# Altium integrated library Renesas Logic.IntLib: 1013 symbols (part 27 of 27)
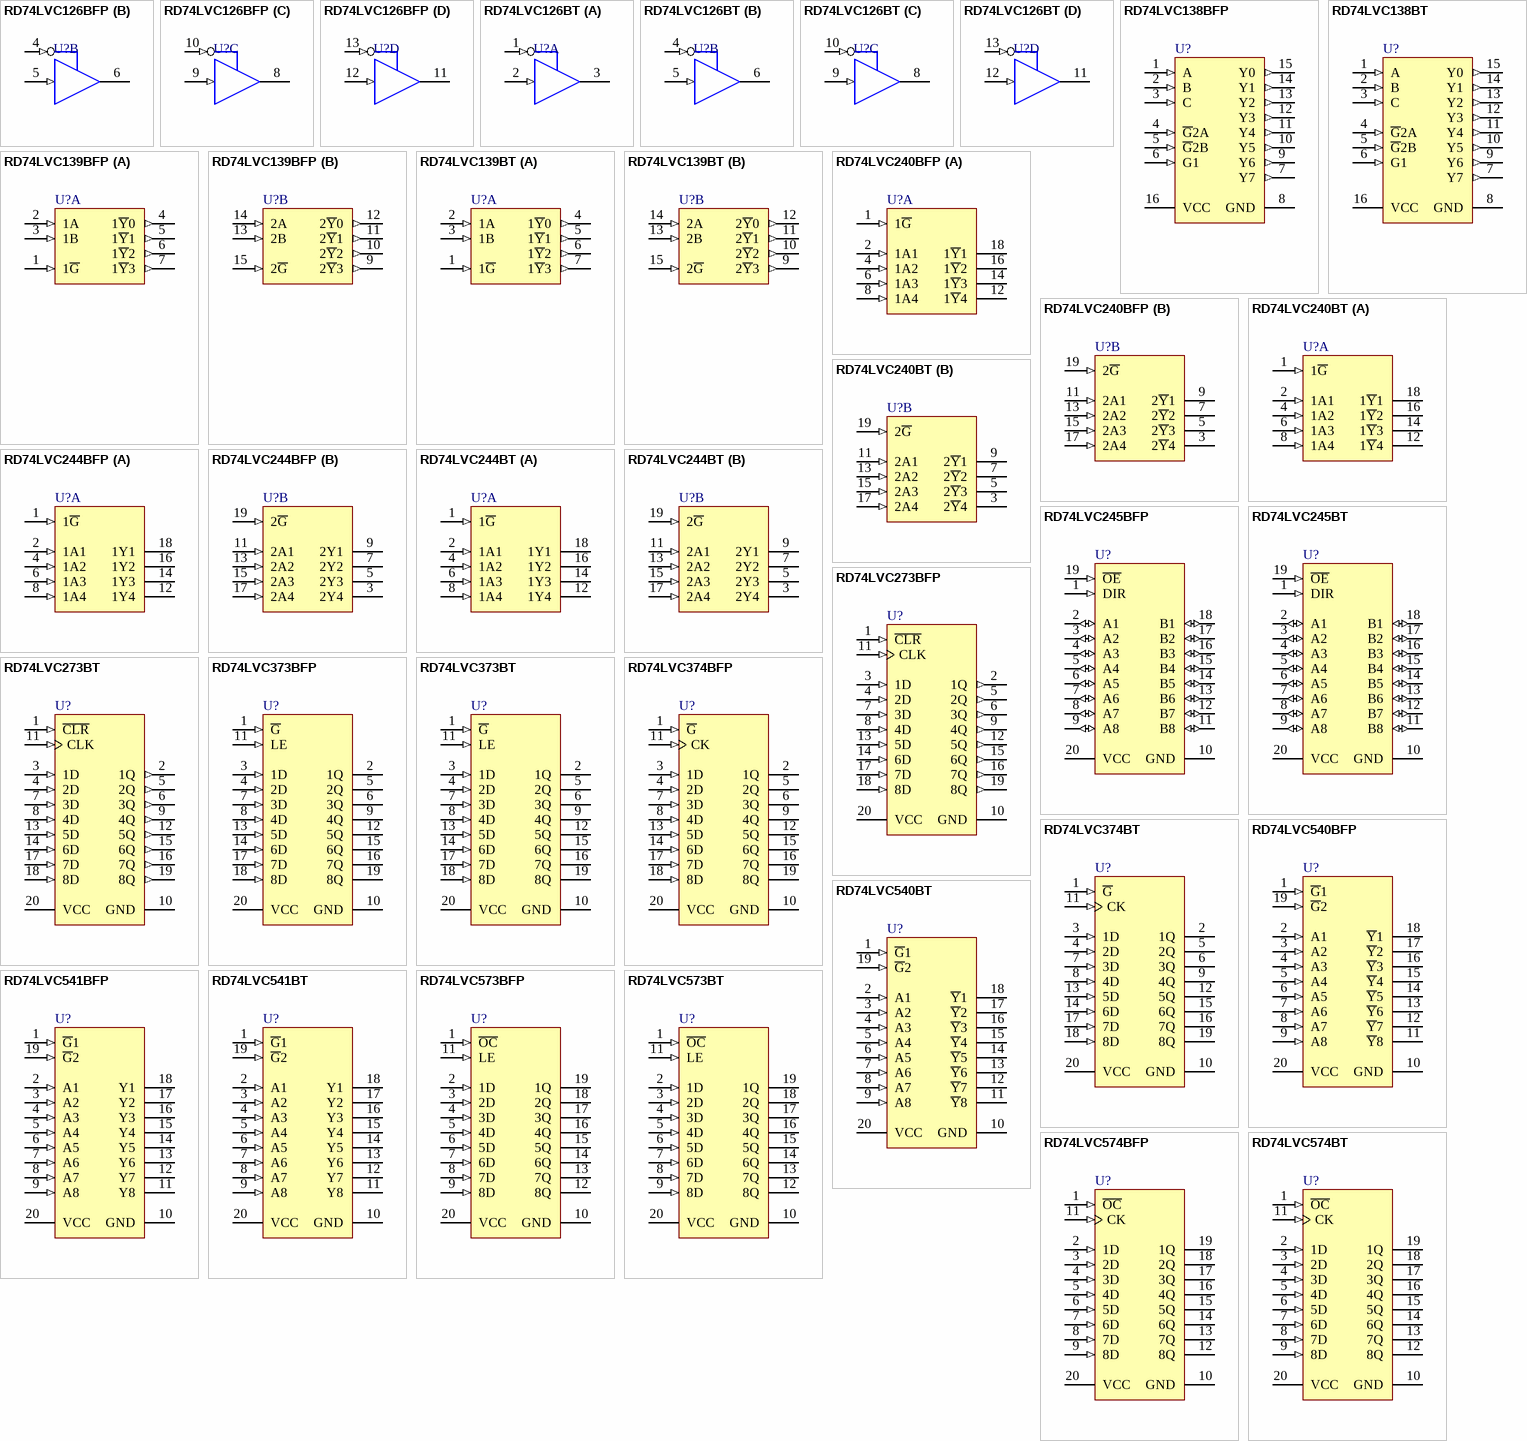
[diagram p79: symbols RD74LVC126BFP to RD74LVC574BT]

## RD74LVC244BFP
designator U?
Octal Buffers / Line Drivers with 3-State Outputs; Published: 10-Feb-2010; DatasheetVersion: Rev.2.00, Feb-2005; PackageVersion: Sep-2005; PackageReference: PRSP0020DD-B; Publisher: Altium Limited; PackageDescription: 20-Pin Plastic Small Outline Package, 12.6 x 5.5 x 1.8 mm Body, 1.27 mm Pitch; Code_JEITA: P-SOP20-5.5x12.6-1.27; ComponentLink1Description: Manufacturer Link; ComponentLink1URL: http://sg.renesas.com/fmwk.jsp?cnt=hd74lvc_root.jsp&fp=/products/standard_ic/general_purpose_logic/low_voltage_logic/hd74lvc/; ComponentLink2Description: Datasheet; ComponentLink2URL: http://documentation.renesas.com/eng/products/logic/rej03d0220_rd74lvc244b.pdf; ComponentLink3Description: Packaging Specification; ComponentLink3URL: http://sg.renesas.com/media/products/common_info/package/pdf/ic/code/prsp0020dd_b.pdf
footprint PRSP0020DD-B_N (SOP, 20-Leads, Body 12.6x5.3mm, Pitch 1.27mm, IPC Medium Density)
footprint PRSP0020DD-B_L (SOP, 20-Leads, Body 12.6x5.3mm, Pitch 1.27mm, IPC High Density)
footprint PRSP0020DD-B_M (SOP, 20-Leads, Body 12.6x5.3mm, Pitch 1.27mm, IPC Low Density)
pins on every part: 10 GND (power) hidden, 20 VCC (power) hidden
part A pins: 1 1~{G} (in), 2 1A1 (in), 4 1A2 (in), 6 1A3 (in), 8 1A4 (in), 12 1Y4 (hiz), 14 1Y3 (hiz), 16 1Y2 (hiz), 18 1Y1 (hiz)
part B pins: 3 2Y4 (hiz), 5 2Y3 (hiz), 7 2Y2 (hiz), 9 2Y1 (hiz), 11 2A1 (in), 13 2A2 (in), 15 2A3 (in), 17 2A4 (in), 19 2~{G} (in)

## RD74LVC244BT
designator U?
Octal Buffers / Line Drivers with 3-State Outputs; Published: 10-Feb-2010; DatasheetVersion: Rev.2.00, Feb-2005; PackageVersion: Sep-2005; PackageReference: PTSP0020JB-A; Publisher: Altium Limited; PackageDescription: 20-Pin Plastic Thin Small Outline Package, 6.5 x 4.4 mm Body, 0.65 mm Pitch; Code_JEITA: P-TSSOP20-4.4x6.5-0.65; ComponentLink1Description: Manufacturer Link; ComponentLink1URL: http://sg.renesas.com/fmwk.jsp?cnt=hd74lvc_root.jsp&fp=/products/standard_ic/general_purpose_logic/low_voltage_logic/hd74lvc/; ComponentLink2Description: Datasheet; ComponentLink2URL: http://documentation.renesas.com/eng/products/logic/rej03d0220_rd74lvc244b.pdf; ComponentLink3Description: Packaging Specification; ComponentLink3URL: http://sg.renesas.com/media/products/common_info/package/pdf/ic/code/ptsp0020jb_a.pdf
footprint PTSP0020JB-A_N (TSOP, 20-Leads, Body 6.5x4.4mm, Pitch 0.65mm, IPC Medium Density)
footprint PTSP0020JB-A_L (TSOP, 20-Leads, Body 6.5x4.4mm, Pitch 0.65mm, IPC High Density)
footprint PTSP0020JB-A_M (TSOP, 20-Leads, Body 6.5x4.4mm, Pitch 0.65mm, IPC Low Density)
pins on every part: 10 GND (power) hidden, 20 VCC (power) hidden
part A pins: 1 1~{G} (in), 2 1A1 (in), 4 1A2 (in), 6 1A3 (in), 8 1A4 (in), 12 1Y4 (hiz), 14 1Y3 (hiz), 16 1Y2 (hiz), 18 1Y1 (hiz)
part B pins: 3 2Y4 (hiz), 5 2Y3 (hiz), 7 2Y2 (hiz), 9 2Y1 (hiz), 11 2A1 (in), 13 2A2 (in), 15 2A3 (in), 17 2A4 (in), 19 2~{G} (in)

## RD74LVC245BFP
designator U?
Octal Bidirectional Transceivers with 3-State Outputs; Published: 10-Feb-2010; DatasheetVersion: Rev.1.00, Aug-2004; PackageVersion: Sep-2005; PackageReference: PRSP0020DD-B; Publisher: Altium Limited; PackageDescription: 20-Pin Plastic Small Outline Package, 12.6 x 5.5 x 1.8 mm Body, 1.27 mm Pitch; Code_JEITA: P-SOP20-5.5x12.6-1.27; ComponentLink1Description: Manufacturer Link; ComponentLink1URL: http://sg.renesas.com/fmwk.jsp?cnt=hd74lvc_root.jsp&fp=/products/standard_ic/general_purpose_logic/low_voltage_logic/hd74lvc/; ComponentLink2Description: Datasheet; ComponentLink2URL: http://documentation.renesas.com/eng/products/logic/rej03d0386_rd74lvc245b.pdf; ComponentLink3Description: Packaging Specification; ComponentLink3URL: http://sg.renesas.com/media/products/common_info/package/pdf/ic/code/prsp0020dd_b.pdf
footprint PRSP0020DD-B_N (SOP, 20-Leads, Body 12.6x5.3mm, Pitch 1.27mm, IPC Medium Density)
footprint PRSP0020DD-B_L (SOP, 20-Leads, Body 12.6x5.3mm, Pitch 1.27mm, IPC High Density)
footprint PRSP0020DD-B_M (SOP, 20-Leads, Body 12.6x5.3mm, Pitch 1.27mm, IPC Low Density)
pins: 1 DIR (in), 2 A1 (io), 3 A2 (io), 4 A3 (io), 5 A4 (io), 6 A5 (io), 7 A6 (io), 8 A7 (io), 9 A8 (io), 10 GND (power), 11 B8 (io), 12 B7 (io), 13 B6 (io), 14 B5 (io), 15 B4 (io), 16 B3 (io), 17 B2 (io), 18 B1 (io), 19 ~{OE} (in), 20 VCC (power)

## RD74LVC245BT
designator U?
Octal Bidirectional Transceivers with 3-State Outputs; Published: 10-Feb-2010; DatasheetVersion: Rev.1.00, Aug-2004; PackageVersion: Sep-2005; PackageReference: PTSP0020JB-A; Publisher: Altium Limited; PackageDescription: 20-Pin Plastic Thin Small Outline Package, 6.5 x 4.4 mm Body, 0.65 mm Pitch; Code_JEITA: P-TSSOP20-4.4x6.5-0.65; ComponentLink1Description: Manufacturer Link; ComponentLink1URL: http://sg.renesas.com/fmwk.jsp?cnt=hd74lvc_root.jsp&fp=/products/standard_ic/general_purpose_logic/low_voltage_logic/hd74lvc/; ComponentLink2Description: Datasheet; ComponentLink2URL: http://documentation.renesas.com/eng/products/logic/rej03d0386_rd74lvc245b.pdf; ComponentLink3Description: Packaging Specification; ComponentLink3URL: http://sg.renesas.com/media/products/common_info/package/pdf/ic/code/ptsp0020jb_a.pdf
footprint PTSP0020JB-A_N (TSOP, 20-Leads, Body 6.5x4.4mm, Pitch 0.65mm, IPC Medium Density)
footprint PTSP0020JB-A_L (TSOP, 20-Leads, Body 6.5x4.4mm, Pitch 0.65mm, IPC High Density)
footprint PTSP0020JB-A_M (TSOP, 20-Leads, Body 6.5x4.4mm, Pitch 0.65mm, IPC Low Density)
pins: 1 DIR (in), 2 A1 (io), 3 A2 (io), 4 A3 (io), 5 A4 (io), 6 A5 (io), 7 A6 (io), 8 A7 (io), 9 A8 (io), 10 GND (power), 11 B8 (io), 12 B7 (io), 13 B6 (io), 14 B5 (io), 15 B4 (io), 16 B3 (io), 17 B2 (io), 18 B1 (io), 19 ~{OE} (in), 20 VCC (power)

## RD74LVC273BFP
designator U?
Octal D-Type Flip Flops with Clear; Published: 10-Feb-2010; DatasheetVersion: Rev.1.00, Jun-2004; PackageVersion: Sep-2005; PackageReference: PRSP0020DD-B; Publisher: Altium Limited; PackageDescription: 20-Pin Plastic Small Outline Package, 12.6 x 5.5 x 1.8 mm Body, 1.27 mm Pitch; Code_JEITA: P-SOP20-5.5x12.6-1.27; ComponentLink1Description: Manufacturer Link; ComponentLink1URL: http://sg.renesas.com/fmwk.jsp?cnt=hd74lvc_root.jsp&fp=/products/standard_ic/general_purpose_logic/low_voltage_logic/hd74lvc/; ComponentLink2Description: Datasheet; ComponentLink2URL: http://documentation.renesas.com/eng/products/logic/rej03d0323_rd74lvc273b.pdf; ComponentLink3Description: Packaging Specification; ComponentLink3URL: http://sg.renesas.com/media/products/common_info/package/pdf/ic/code/prsp0020dd_b.pdf
footprint PRSP0020DD-B_N (SOP, 20-Leads, Body 12.6x5.3mm, Pitch 1.27mm, IPC Medium Density)
footprint PRSP0020DD-B_L (SOP, 20-Leads, Body 12.6x5.3mm, Pitch 1.27mm, IPC High Density)
footprint PRSP0020DD-B_M (SOP, 20-Leads, Body 12.6x5.3mm, Pitch 1.27mm, IPC Low Density)
pins: 1 ~{CLR} (in), 2 1Q (out), 3 1D (in), 4 2D (in), 5 2Q (out), 6 3Q (out), 7 3D (in), 8 4D (in), 9 4Q (out), 10 GND (power), 11 CLK (in), 12 5Q (out), 13 5D (in), 14 6D (in), 15 6Q (out), 16 7Q (out), 17 7D (in), 18 8D (in), 19 8Q (out), 20 VCC (power)

## RD74LVC273BT
designator U?
Octal D-Type Flip Flops with Clear; Published: 10-Feb-2010; DatasheetVersion: Rev.1.00, Jun-2004; PackageVersion: Sep-2005; PackageReference: PTSP0020JB-A; Publisher: Altium Limited; PackageDescription: 20-Pin Plastic Thin Small Outline Package, 6.5 x 4.4 mm Body, 0.65 mm Pitch; Code_JEITA: P-TSSOP20-4.4x6.5-0.65; ComponentLink1Description: Manufacturer Link; ComponentLink1URL: http://sg.renesas.com/fmwk.jsp?cnt=hd74lvc_root.jsp&fp=/products/standard_ic/general_purpose_logic/low_voltage_logic/hd74lvc/; ComponentLink2Description: Datasheet; ComponentLink2URL: http://documentation.renesas.com/eng/products/logic/rej03d0323_rd74lvc273b.pdf; ComponentLink3Description: Packaging Specification; ComponentLink3URL: http://sg.renesas.com/media/products/common_info/package/pdf/ic/code/ptsp0020jb_a.pdf
footprint PTSP0020JB-A_N (TSOP, 20-Leads, Body 6.5x4.4mm, Pitch 0.65mm, IPC Medium Density)
footprint PTSP0020JB-A_L (TSOP, 20-Leads, Body 6.5x4.4mm, Pitch 0.65mm, IPC High Density)
footprint PTSP0020JB-A_M (TSOP, 20-Leads, Body 6.5x4.4mm, Pitch 0.65mm, IPC Low Density)
pins: 1 ~{CLR} (in), 2 1Q (out), 3 1D (in), 4 2D (in), 5 2Q (out), 6 3Q (out), 7 3D (in), 8 4D (in), 9 4Q (out), 10 GND (power), 11 CLK (in), 12 5Q (out), 13 5D (in), 14 6D (in), 15 6Q (out), 16 7Q (out), 17 7D (in), 18 8D (in), 19 8Q (out), 20 VCC (power)

## RD74LVC373BFP
designator U?
Octal D-Type Transparent Latches with 3-State Outputs; Published: 10-Feb-2010; DatasheetVersion: Rev.1.00, Nov-2004; PackageVersion: Sep-2005; PackageReference: PRSP0020DD-B; Publisher: Altium Limited; PackageDescription: 20-Pin Plastic Small Outline Package, 12.6 x 5.5 x 1.8 mm Body, 1.27 mm Pitch; Code_JEITA: P-SOP20-5.5x12.6-1.27; ComponentLink1Description: Manufacturer Link; ComponentLink1URL: http://sg.renesas.com/fmwk.jsp?cnt=hd74lvc_root.jsp&fp=/products/standard_ic/general_purpose_logic/low_voltage_logic/hd74lvc/; ComponentLink2Description: Datasheet; ComponentLink2URL: http://documentation.renesas.com/eng/products/logic/rej03d0381_rd74lvc373b.pdf; ComponentLink3Description: Packaging Specification; ComponentLink3URL: http://sg.renesas.com/media/products/common_info/package/pdf/ic/code/prsp0020dd_b.pdf
footprint PRSP0020DD-B_N (SOP, 20-Leads, Body 12.6x5.3mm, Pitch 1.27mm, IPC Medium Density)
footprint PRSP0020DD-B_L (SOP, 20-Leads, Body 12.6x5.3mm, Pitch 1.27mm, IPC High Density)
footprint PRSP0020DD-B_M (SOP, 20-Leads, Body 12.6x5.3mm, Pitch 1.27mm, IPC Low Density)
pins: 1 ~{G} (in), 2 1Q (hiz), 3 1D (in), 4 2D (in), 5 2Q (hiz), 6 3Q (hiz), 7 3D (in), 8 4D (in), 9 4Q (hiz), 10 GND (power), 11 LE (in), 12 5Q (hiz), 13 5D (in), 14 6D (in), 15 6Q (hiz), 16 7Q (hiz), 17 7D (in), 18 8D (in), 19 8Q (hiz), 20 VCC (power)

## RD74LVC373BT
designator U?
Octal D-Type Transparent Latches with 3-State Outputs; Published: 10-Feb-2010; DatasheetVersion: Rev.1.00, Nov-2004; PackageVersion: Sep-2005; PackageReference: PTSP0020JB-A; Publisher: Altium Limited; PackageDescription: 20-Pin Plastic Thin Small Outline Package, 6.5 x 4.4 mm Body, 0.65 mm Pitch; Code_JEITA: P-TSSOP20-4.4x6.5-0.65; ComponentLink1Description: Manufacturer Link; ComponentLink1URL: http://sg.renesas.com/fmwk.jsp?cnt=hd74lvc_root.jsp&fp=/products/standard_ic/general_purpose_logic/low_voltage_logic/hd74lvc/; ComponentLink2Description: Datasheet; ComponentLink2URL: http://documentation.renesas.com/eng/products/logic/rej03d0381_rd74lvc373b.pdf; ComponentLink3Description: Packaging Specification; ComponentLink3URL: http://sg.renesas.com/media/products/common_info/package/pdf/ic/code/ptsp0020jb_a.pdf
footprint PTSP0020JB-A_N (TSOP, 20-Leads, Body 6.5x4.4mm, Pitch 0.65mm, IPC Medium Density)
footprint PTSP0020JB-A_L (TSOP, 20-Leads, Body 6.5x4.4mm, Pitch 0.65mm, IPC High Density)
footprint PTSP0020JB-A_M (TSOP, 20-Leads, Body 6.5x4.4mm, Pitch 0.65mm, IPC Low Density)
pins: 1 ~{G} (in), 2 1Q (hiz), 3 1D (in), 4 2D (in), 5 2Q (hiz), 6 3Q (hiz), 7 3D (in), 8 4D (in), 9 4Q (hiz), 10 GND (power), 11 LE (in), 12 5Q (hiz), 13 5D (in), 14 6D (in), 15 6Q (hiz), 16 7Q (hiz), 17 7D (in), 18 8D (in), 19 8Q (hiz), 20 VCC (power)

## RD74LVC374BFP
designator U?
Octal D-Type Flip Flops with 3-State Outputs; Published: 10-Feb-2010; DatasheetVersion: Rev.1.00, Nov-2004; PackageVersion: Sep-2005; PackageReference: PRSP0020DD-B; Publisher: Altium Limited; PackageDescription: 20-Pin Plastic Small Outline Package, 12.6 x 5.5 x 1.8 mm Body, 1.27 mm Pitch; Code_JEITA: P-SOP20-5.5x12.6-1.27; ComponentLink1Description: Manufacturer Link; ComponentLink1URL: http://sg.renesas.com/fmwk.jsp?cnt=hd74lvc_root.jsp&fp=/products/standard_ic/general_purpose_logic/low_voltage_logic/hd74lvc/; ComponentLink2Description: Datasheet; ComponentLink2URL: http://documentation.renesas.com/eng/products/logic/rej03d0382_rd74lvc374b.pdf; ComponentLink3Description: Packaging Specification; ComponentLink3URL: http://sg.renesas.com/media/products/common_info/package/pdf/ic/code/prsp0020dd_b.pdf
footprint PRSP0020DD-B_N (SOP, 20-Leads, Body 12.6x5.3mm, Pitch 1.27mm, IPC Medium Density)
footprint PRSP0020DD-B_L (SOP, 20-Leads, Body 12.6x5.3mm, Pitch 1.27mm, IPC High Density)
footprint PRSP0020DD-B_M (SOP, 20-Leads, Body 12.6x5.3mm, Pitch 1.27mm, IPC Low Density)
pins: 1 ~{G} (in), 2 1Q (hiz), 3 1D (in), 4 2D (in), 5 2Q (hiz), 6 3Q (hiz), 7 3D (in), 8 4D (in), 9 4Q (hiz), 10 GND (power), 11 CK (in), 12 5Q (hiz), 13 5D (in), 14 6D (in), 15 6Q (hiz), 16 7Q (hiz), 17 7D (in), 18 8D (in), 19 8Q (hiz), 20 VCC (power)

## RD74LVC374BT
designator U?
Octal D-Type Flip Flops with 3-State Outputs; Published: 10-Feb-2010; DatasheetVersion: Rev.1.00, Nov-2004; PackageVersion: Sep-2005; PackageReference: PTSP0020JB-A; Publisher: Altium Limited; PackageDescription: 20-Pin Plastic Thin Small Outline Package, 6.5 x 4.4 mm Body, 0.65 mm Pitch; Code_JEITA: P-TSSOP20-4.4x6.5-0.65; ComponentLink1Description: Manufacturer Link; ComponentLink1URL: http://sg.renesas.com/fmwk.jsp?cnt=hd74lvc_root.jsp&fp=/products/standard_ic/general_purpose_logic/low_voltage_logic/hd74lvc/; ComponentLink2Description: Datasheet; ComponentLink2URL: http://documentation.renesas.com/eng/products/logic/rej03d0382_rd74lvc374b.pdf; ComponentLink3Description: Packaging Specification; ComponentLink3URL: http://sg.renesas.com/media/products/common_info/package/pdf/ic/code/ptsp0020jb_a.pdf
footprint PTSP0020JB-A_N (TSOP, 20-Leads, Body 6.5x4.4mm, Pitch 0.65mm, IPC Medium Density)
footprint PTSP0020JB-A_L (TSOP, 20-Leads, Body 6.5x4.4mm, Pitch 0.65mm, IPC High Density)
footprint PTSP0020JB-A_M (TSOP, 20-Leads, Body 6.5x4.4mm, Pitch 0.65mm, IPC Low Density)
pins: 1 ~{G} (in), 2 1Q (hiz), 3 1D (in), 4 2D (in), 5 2Q (hiz), 6 3Q (hiz), 7 3D (in), 8 4D (in), 9 4Q (hiz), 10 GND (power), 11 CK (in), 12 5Q (hiz), 13 5D (in), 14 6D (in), 15 6Q (hiz), 16 7Q (hiz), 17 7D (in), 18 8D (in), 19 8Q (hiz), 20 VCC (power)

## RD74LVC540BFP
designator U?
Octal Buffers / Line Drivers with 3-State Outputs; Published: 10-Feb-2010; DatasheetVersion: Rev.2.00, Mar-2005; PackageVersion: Sep-2005; PackageReference: PRSP0020DD-B; Publisher: Altium Limited; PackageDescription: 20-Pin Plastic Small Outline Package, 12.6 x 5.5 x 1.8 mm Body, 1.27 mm Pitch; Code_JEITA: P-SOP20-5.5x12.6-1.27; ComponentLink1Description: Manufacturer Link; ComponentLink1URL: http://sg.renesas.com/fmwk.jsp?cnt=hd74lvc_root.jsp&fp=/products/standard_ic/general_purpose_logic/low_voltage_logic/hd74lvc/; ComponentLink2Description: Datasheet; ComponentLink2URL: http://documentation.renesas.com/eng/products/logic/rej03d0113_rd74lvc540b.pdf; ComponentLink3Description: Packaging Specification; ComponentLink3URL: http://sg.renesas.com/media/products/common_info/package/pdf/ic/code/prsp0020dd_b.pdf
footprint PRSP0020DD-B_N (SOP, 20-Leads, Body 12.6x5.3mm, Pitch 1.27mm, IPC Medium Density)
footprint PRSP0020DD-B_L (SOP, 20-Leads, Body 12.6x5.3mm, Pitch 1.27mm, IPC High Density)
footprint PRSP0020DD-B_M (SOP, 20-Leads, Body 12.6x5.3mm, Pitch 1.27mm, IPC Low Density)
pins: 1 ~{G}1 (in), 2 A1 (in), 3 A2 (in), 4 A3 (in), 5 A4 (in), 6 A5 (in), 7 A6 (in), 8 A7 (in), 9 A8 (in), 10 GND (power), 11 ~{Y}8 (hiz), 12 ~{Y}7 (hiz), 13 ~{Y}6 (hiz), 14 ~{Y}5 (hiz), 15 ~{Y}4 (hiz), 16 ~{Y}3 (hiz), 17 ~{Y}2 (hiz), 18 ~{Y}1 (hiz), 19 ~{G}2 (in), 20 VCC (power)

## RD74LVC540BT
designator U?
Octal Buffers / Line Drivers with 3-State Outputs; Published: 10-Feb-2010; DatasheetVersion: Rev.2.00, Mar-2005; PackageVersion: Sep-2005; PackageReference: PTSP0020JB-A; Publisher: Altium Limited; PackageDescription: 20-Pin Plastic Thin Small Outline Package, 6.5 x 4.4 mm Body, 0.65 mm Pitch; Code_JEITA: P-TSSOP20-4.4x6.5-0.65; ComponentLink1Description: Manufacturer Link; ComponentLink1URL: http://sg.renesas.com/fmwk.jsp?cnt=hd74lvc_root.jsp&fp=/products/standard_ic/general_purpose_logic/low_voltage_logic/hd74lvc/; ComponentLink2Description: Datasheet; ComponentLink2URL: http://documentation.renesas.com/eng/products/logic/rej03d0113_rd74lvc540b.pdf; ComponentLink3Description: Packaging Specification; ComponentLink3URL: http://sg.renesas.com/media/products/common_info/package/pdf/ic/code/ptsp0020jb_a.pdf
footprint PTSP0020JB-A_N (TSOP, 20-Leads, Body 6.5x4.4mm, Pitch 0.65mm, IPC Medium Density)
footprint PTSP0020JB-A_L (TSOP, 20-Leads, Body 6.5x4.4mm, Pitch 0.65mm, IPC High Density)
footprint PTSP0020JB-A_M (TSOP, 20-Leads, Body 6.5x4.4mm, Pitch 0.65mm, IPC Low Density)
pins: 1 ~{G}1 (in), 2 A1 (in), 3 A2 (in), 4 A3 (in), 5 A4 (in), 6 A5 (in), 7 A6 (in), 8 A7 (in), 9 A8 (in), 10 GND (power), 11 ~{Y}8 (hiz), 12 ~{Y}7 (hiz), 13 ~{Y}6 (hiz), 14 ~{Y}5 (hiz), 15 ~{Y}4 (hiz), 16 ~{Y}3 (hiz), 17 ~{Y}2 (hiz), 18 ~{Y}1 (hiz), 19 ~{G}2 (in), 20 VCC (power)

## RD74LVC541BFP
designator U?
Octal Buffers / Line Drivers with 3-State Outputs; Published: 10-Feb-2010; DatasheetVersion: Rev.2.00, Mar-2005; PackageVersion: Sep-2005; PackageReference: PRSP0020DD-B; Publisher: Altium Limited; PackageDescription: 20-Pin Plastic Small Outline Package, 12.6 x 5.5 x 1.8 mm Body, 1.27 mm Pitch; Code_JEITA: P-SOP20-5.5x12.6-1.27; ComponentLink1Description: Manufacturer Link; ComponentLink1URL: http://sg.renesas.com/fmwk.jsp?cnt=hd74lvc_root.jsp&fp=/products/standard_ic/general_purpose_logic/low_voltage_logic/hd74lvc/; ComponentLink2Description: Datasheet; ComponentLink2URL: http://documentation.renesas.com/eng/products/logic/rej03d0114_rd74lvc541b.pdf; ComponentLink3Description: Packaging Specification; ComponentLink3URL: http://sg.renesas.com/media/products/common_info/package/pdf/ic/code/prsp0020dd_b.pdf
footprint PRSP0020DD-B_N (SOP, 20-Leads, Body 12.6x5.3mm, Pitch 1.27mm, IPC Medium Density)
footprint PRSP0020DD-B_L (SOP, 20-Leads, Body 12.6x5.3mm, Pitch 1.27mm, IPC High Density)
footprint PRSP0020DD-B_M (SOP, 20-Leads, Body 12.6x5.3mm, Pitch 1.27mm, IPC Low Density)
pins: 1 ~{G}1 (in), 2 A1 (in), 3 A2 (in), 4 A3 (in), 5 A4 (in), 6 A5 (in), 7 A6 (in), 8 A7 (in), 9 A8 (in), 10 GND (power), 11 Y8 (hiz), 12 Y7 (hiz), 13 Y6 (hiz), 14 Y5 (hiz), 15 Y4 (hiz), 16 Y3 (hiz), 17 Y2 (hiz), 18 Y1 (hiz), 19 ~{G}2 (in), 20 VCC (power)

## RD74LVC541BT
designator U?
Octal Buffers / Line Drivers with 3-State Outputs; Published: 10-Feb-2010; DatasheetVersion: Rev.2.00, Mar-2005; PackageVersion: Sep-2005; PackageReference: PTSP0020JB-A; Publisher: Altium Limited; PackageDescription: 20-Pin Plastic Thin Small Outline Package, 6.5 x 4.4 mm Body, 0.65 mm Pitch; Code_JEITA: P-TSSOP20-4.4x6.5-0.65; ComponentLink1Description: Manufacturer Link; ComponentLink1URL: http://sg.renesas.com/fmwk.jsp?cnt=hd74lvc_root.jsp&fp=/products/standard_ic/general_purpose_logic/low_voltage_logic/hd74lvc/; ComponentLink2Description: Datasheet; ComponentLink2URL: http://documentation.renesas.com/eng/products/logic/rej03d0114_rd74lvc541b.pdf; ComponentLink3Description: Packaging Specification; ComponentLink3URL: http://sg.renesas.com/media/products/common_info/package/pdf/ic/code/ptsp0020jb_a.pdf
footprint PTSP0020JB-A_N (TSOP, 20-Leads, Body 6.5x4.4mm, Pitch 0.65mm, IPC Medium Density)
footprint PTSP0020JB-A_L (TSOP, 20-Leads, Body 6.5x4.4mm, Pitch 0.65mm, IPC High Density)
footprint PTSP0020JB-A_M (TSOP, 20-Leads, Body 6.5x4.4mm, Pitch 0.65mm, IPC Low Density)
pins: 1 ~{G}1 (in), 2 A1 (in), 3 A2 (in), 4 A3 (in), 5 A4 (in), 6 A5 (in), 7 A6 (in), 8 A7 (in), 9 A8 (in), 10 GND (power), 11 Y8 (hiz), 12 Y7 (hiz), 13 Y6 (hiz), 14 Y5 (hiz), 15 Y4 (hiz), 16 Y3 (hiz), 17 Y2 (hiz), 18 Y1 (hiz), 19 ~{G}2 (in), 20 VCC (power)

## RD74LVC573BFP
designator U?
Octal D-Type Transparent Latches with 3-State Outputs; Published: 10-Feb-2010; DatasheetVersion: Rev.1.00, Apr-2004; PackageVersion: Sep-2005; PackageReference: PRSP0020DD-B; Publisher: Altium Limited; PackageDescription: 20-Pin Plastic Small Outline Package, 12.6 x 5.5 x 1.8 mm Body, 1.27 mm Pitch; Code_JEITA: P-SOP20-5.5x12.6-1.27; ComponentLink1Description: Manufacturer Link; ComponentLink1URL: http://sg.renesas.com/fmwk.jsp?cnt=hd74lvc_root.jsp&fp=/products/standard_ic/general_purpose_logic/low_voltage_logic/hd74lvc/; ComponentLink2Description: Datasheet; ComponentLink2URL: http://documentation.renesas.com/eng/products/logic/rej03d0209_rd74lvc573b.pdf; ComponentLink3Description: Packaging Specification; ComponentLink3URL: http://sg.renesas.com/media/products/common_info/package/pdf/ic/code/prsp0020dd_b.pdf
footprint PRSP0020DD-B_N (SOP, 20-Leads, Body 12.6x5.3mm, Pitch 1.27mm, IPC Medium Density)
footprint PRSP0020DD-B_L (SOP, 20-Leads, Body 12.6x5.3mm, Pitch 1.27mm, IPC High Density)
footprint PRSP0020DD-B_M (SOP, 20-Leads, Body 12.6x5.3mm, Pitch 1.27mm, IPC Low Density)
pins: 1 ~{OC} (in), 2 1D (in), 3 2D (in), 4 3D (in), 5 4D (in), 6 5D (in), 7 6D (in), 8 7D (in), 9 8D (in), 10 GND (power), 11 LE (in), 12 8Q (hiz), 13 7Q (hiz), 14 6Q (hiz), 15 5Q (hiz), 16 4Q (hiz), 17 3Q (hiz), 18 2Q (hiz), 19 1Q (hiz), 20 VCC (power)

## RD74LVC573BT
designator U?
Octal D-Type Transparent Latches with 3-State Outputs; Published: 10-Feb-2010; DatasheetVersion: Rev.1.00, Apr-2004; PackageVersion: Sep-2005; PackageReference: PTSP0020JB-A; Publisher: Altium Limited; PackageDescription: 20-Pin Plastic Thin Small Outline Package, 6.5 x 4.4 mm Body, 0.65 mm Pitch; Code_JEITA: P-TSSOP20-4.4x6.5-0.65; ComponentLink1Description: Manufacturer Link; ComponentLink1URL: http://sg.renesas.com/fmwk.jsp?cnt=hd74lvc_root.jsp&fp=/products/standard_ic/general_purpose_logic/low_voltage_logic/hd74lvc/; ComponentLink2Description: Datasheet; ComponentLink2URL: http://documentation.renesas.com/eng/products/logic/rej03d0209_rd74lvc573b.pdf; ComponentLink3Description: Packaging Specification; ComponentLink3URL: http://sg.renesas.com/media/products/common_info/package/pdf/ic/code/ptsp0020jb_a.pdf
footprint PTSP0020JB-A_N (TSOP, 20-Leads, Body 6.5x4.4mm, Pitch 0.65mm, IPC Medium Density)
footprint PTSP0020JB-A_L (TSOP, 20-Leads, Body 6.5x4.4mm, Pitch 0.65mm, IPC High Density)
footprint PTSP0020JB-A_M (TSOP, 20-Leads, Body 6.5x4.4mm, Pitch 0.65mm, IPC Low Density)
pins: 1 ~{OC} (in), 2 1D (in), 3 2D (in), 4 3D (in), 5 4D (in), 6 5D (in), 7 6D (in), 8 7D (in), 9 8D (in), 10 GND (power), 11 LE (in), 12 8Q (hiz), 13 7Q (hiz), 14 6Q (hiz), 15 5Q (hiz), 16 4Q (hiz), 17 3Q (hiz), 18 2Q (hiz), 19 1Q (hiz), 20 VCC (power)

## RD74LVC574BFP
designator U?
Octal D-Type Flip Flops with 3-State Outputs; Published: 10-Feb-2010; DatasheetVersion: Rev.1.00, Apr-2004; PackageVersion: Sep-2005; PackageReference: PRSP0020DD-B; Publisher: Altium Limited; PackageDescription: 20-Pin Plastic Small Outline Package, 12.6 x 5.5 x 1.8 mm Body, 1.27 mm Pitch; Code_JEITA: P-SOP20-5.5x12.6-1.27; ComponentLink1Description: Manufacturer Link; ComponentLink1URL: http://sg.renesas.com/fmwk.jsp?cnt=hd74lvc_root.jsp&fp=/products/standard_ic/general_purpose_logic/low_voltage_logic/hd74lvc/; ComponentLink2Description: Datasheet; ComponentLink2URL: http://documentation.renesas.com/eng/products/logic/rej03d0210_rd74lvc574b.pdf; ComponentLink3Description: Packaging Specification; ComponentLink3URL: http://sg.renesas.com/media/products/common_info/package/pdf/ic/code/prsp0020dd_b.pdf
footprint PRSP0020DD-B_N (SOP, 20-Leads, Body 12.6x5.3mm, Pitch 1.27mm, IPC Medium Density)
footprint PRSP0020DD-B_L (SOP, 20-Leads, Body 12.6x5.3mm, Pitch 1.27mm, IPC High Density)
footprint PRSP0020DD-B_M (SOP, 20-Leads, Body 12.6x5.3mm, Pitch 1.27mm, IPC Low Density)
pins: 1 ~{OC} (in), 2 1D (in), 3 2D (in), 4 3D (in), 5 4D (in), 6 5D (in), 7 6D (in), 8 7D (in), 9 8D (in), 10 GND (power), 11 CK (in), 12 8Q (hiz), 13 7Q (hiz), 14 6Q (hiz), 15 5Q (hiz), 16 4Q (hiz), 17 3Q (hiz), 18 2Q (hiz), 19 1Q (hiz), 20 VCC (power)

## RD74LVC574BT
designator U?
Octal D-Type Flip Flops with 3-State Outputs; Published: 10-Feb-2010; DatasheetVersion: Rev.1.00, Apr-2004; PackageVersion: Sep-2005; PackageReference: PTSP0020JB-A; Publisher: Altium Limited; PackageDescription: 20-Pin Plastic Thin Small Outline Package, 6.5 x 4.4 mm Body, 0.65 mm Pitch; Code_JEITA: P-TSSOP20-4.4x6.5-0.65; ComponentLink1Description: Manufacturer Link; ComponentLink1URL: http://sg.renesas.com/fmwk.jsp?cnt=hd74lvc_root.jsp&fp=/products/standard_ic/general_purpose_logic/low_voltage_logic/hd74lvc/; ComponentLink2Description: Datasheet; ComponentLink2URL: http://documentation.renesas.com/eng/products/logic/rej03d0210_rd74lvc574b.pdf; ComponentLink3Description: Packaging Specification; ComponentLink3URL: http://sg.renesas.com/media/products/common_info/package/pdf/ic/code/ptsp0020jb_a.pdf
footprint PTSP0020JB-A_N (TSOP, 20-Leads, Body 6.5x4.4mm, Pitch 0.65mm, IPC Medium Density)
footprint PTSP0020JB-A_L (TSOP, 20-Leads, Body 6.5x4.4mm, Pitch 0.65mm, IPC High Density)
footprint PTSP0020JB-A_M (TSOP, 20-Leads, Body 6.5x4.4mm, Pitch 0.65mm, IPC Low Density)
pins: 1 ~{OC} (in), 2 1D (in), 3 2D (in), 4 3D (in), 5 4D (in), 6 5D (in), 7 6D (in), 8 7D (in), 9 8D (in), 10 GND (power), 11 CK (in), 12 8Q (hiz), 13 7Q (hiz), 14 6Q (hiz), 15 5Q (hiz), 16 4Q (hiz), 17 3Q (hiz), 18 2Q (hiz), 19 1Q (hiz), 20 VCC (power)

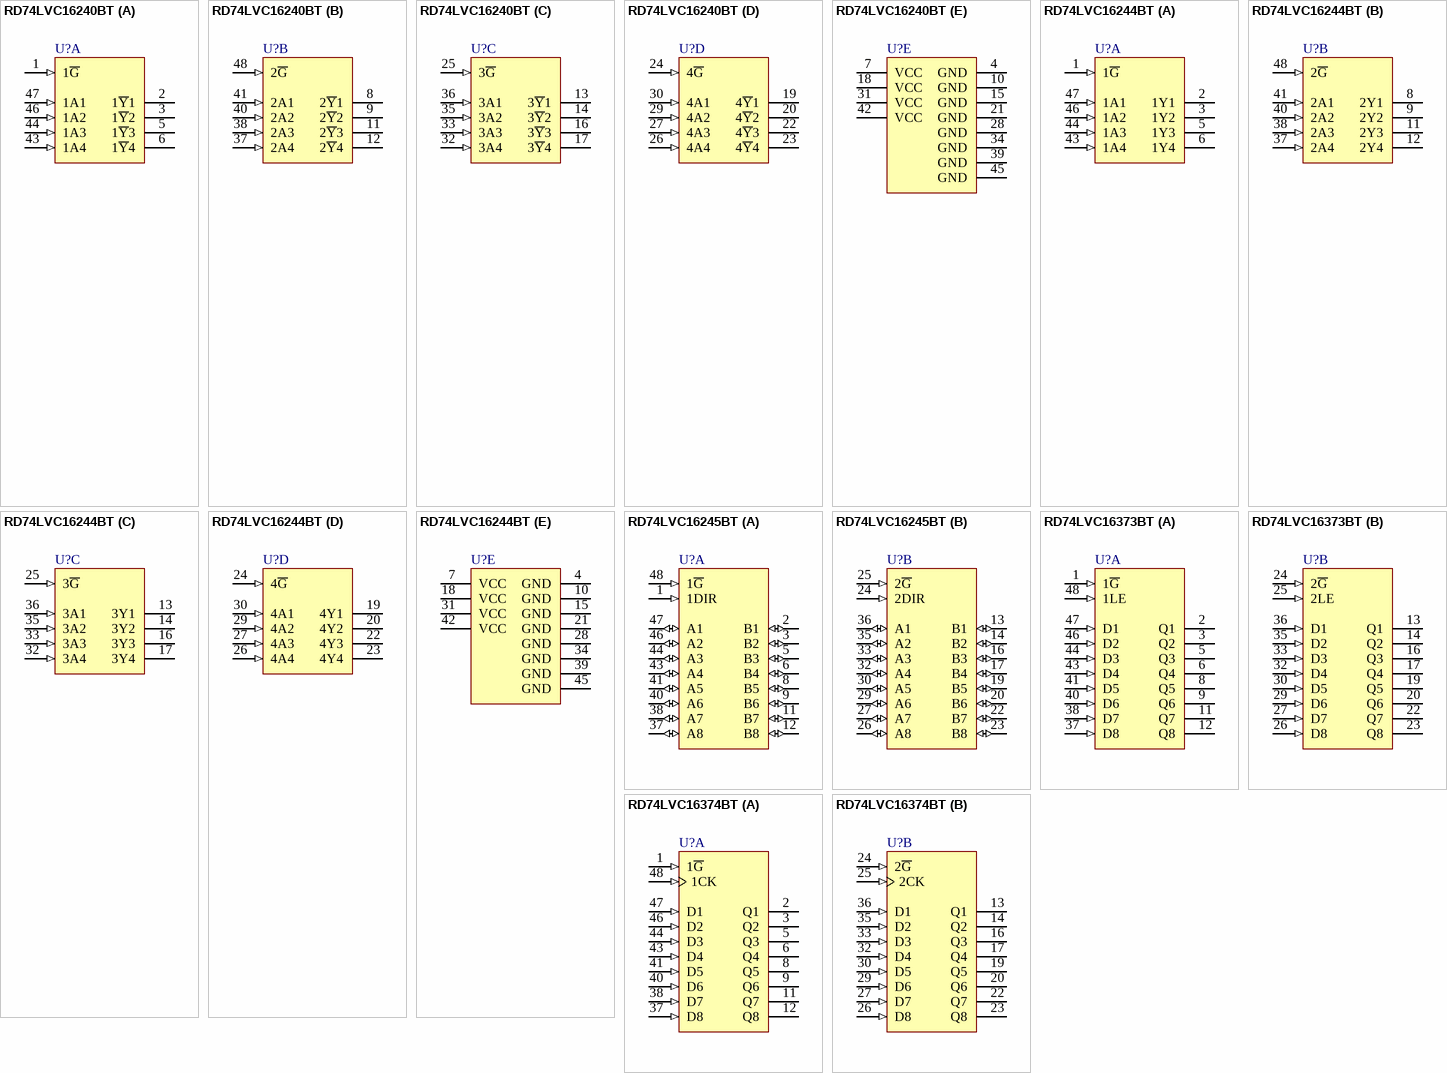
[diagram p53: symbols RD74LVC16240BT to RD74LVC16374BT]

## RD74LVC16240BT
designator U?
16-bit Buffers / Line Drivers with Inverted 3-State Outputs; Published: 10-Feb-2010; DatasheetVersion: Rev.1.00, Mar-2005; PackageVersion: Sep-2005; PackageReference: PTSP0048KA-A; Publisher: Altium Limited; PackageDescription: 48-Pin Thin Shrink Small Outline Package, 12.5 x 6.1 mm Body, 0.5 mm Pitch; Code_JEITA: P-TSSOP48-6.1x12.5-0.50; ComponentLink1Description: Manufacturer Link; ComponentLink1URL: http://sg.renesas.com/fmwk.jsp?cnt=hd74lvc_root.jsp&fp=/products/standard_ic/general_purpose_logic/low_voltage_logic/hd74lvc/; ComponentLink2Description: Datasheet; ComponentLink2URL: http://documentation.renesas.com/eng/products/logic/rej03d0526_rd74lvc16240b.pdf; ComponentLink3Description: Packaging Specification; ComponentLink3URL: http://sg.renesas.com/media/products/common_info/package/pdf/ic/code/ptsp0048ka_a.pdf
footprint PTSP0048KA-A_N (TSSOP, 48-Leads, Body 12.5x6.1mm, Pitch 0.5mm, IPC Medium Density)
footprint PTSP0048KA-A_L (TSSOP, 48-Leads, Body 12.5x6.1mm, Pitch 0.5mm, IPC High Density)
footprint PTSP0048KA-A_M (TSSOP, 48-Leads, Body 12.5x6.1mm, Pitch 0.5mm, IPC Low Density)
part A pins: 1 1~{G} (in), 2 1~{Y}1 (hiz), 3 1~{Y}2 (hiz), 5 1~{Y}3 (hiz), 6 1~{Y}4 (hiz), 43 1A4 (in), 44 1A3 (in), 46 1A2 (in), 47 1A1 (in)
part B pins: 8 2~{Y}1 (hiz), 9 2~{Y}2 (hiz), 11 2~{Y}3 (hiz), 12 2~{Y}4 (hiz), 37 2A4 (in), 38 2A3 (in), 40 2A2 (in), 41 2A1 (in), 48 2~{G} (in)
part C pins: 13 3~{Y}1 (hiz), 14 3~{Y}2 (hiz), 16 3~{Y}3 (hiz), 17 3~{Y}4 (hiz), 25 3~{G} (in), 32 3A4 (in), 33 3A3 (in), 35 3A2 (in), 36 3A1 (in)
part D pins: 19 4~{Y}1 (hiz), 20 4~{Y}2 (hiz), 22 4~{Y}3 (hiz), 23 4~{Y}4 (hiz), 24 4~{G} (in), 26 4A4 (in), 27 4A3 (in), 29 4A2 (in), 30 4A1 (in)
part E pins: 4 GND (power), 7 VCC (power), 10 GND (power), 15 GND (power), 18 VCC (power), 21 GND (power), 28 GND (power), 31 VCC (power), 34 GND (power), 39 GND (power), 42 VCC (power), 45 GND (power)

## RD74LVC16244BT
designator U?
16-bit Buffers / Line Drivers with 3-State Outputs; Published: 10-Feb-2010; DatasheetVersion: Rev.1.00, Mar-2005; PackageVersion: Sep-2005; PackageReference: PTSP0048KA-A; Publisher: Altium Limited; PackageDescription: 48-Pin Thin Shrink Small Outline Package, 12.5 x 6.1 mm Body, 0.5 mm Pitch; Code_JEITA: P-TSSOP48-6.1x12.5-0.50; ComponentLink1Description: Manufacturer Link; ComponentLink1URL: http://sg.renesas.com/fmwk.jsp?cnt=hd74lvc_root.jsp&fp=/products/standard_ic/general_purpose_logic/low_voltage_logic/hd74lvc/; ComponentLink2Description: Datasheet; ComponentLink2URL: http://documentation.renesas.com/eng/products/logic/rej03d0527_rd74lvc16244b.pdf; ComponentLink3Description: Packaging Specification; ComponentLink3URL: http://sg.renesas.com/media/products/common_info/package/pdf/ic/code/ptsp0048ka_a.pdf
footprint PTSP0048KA-A_N (TSSOP, 48-Leads, Body 12.5x6.1mm, Pitch 0.5mm, IPC Medium Density)
footprint PTSP0048KA-A_L (TSSOP, 48-Leads, Body 12.5x6.1mm, Pitch 0.5mm, IPC High Density)
footprint PTSP0048KA-A_M (TSSOP, 48-Leads, Body 12.5x6.1mm, Pitch 0.5mm, IPC Low Density)
part A pins: 1 1~{G} (in), 2 1Y1 (hiz), 3 1Y2 (hiz), 5 1Y3 (hiz), 6 1Y4 (hiz), 43 1A4 (in), 44 1A3 (in), 46 1A2 (in), 47 1A1 (in)
part B pins: 8 2Y1 (hiz), 9 2Y2 (hiz), 11 2Y3 (hiz), 12 2Y4 (hiz), 37 2A4 (in), 38 2A3 (in), 40 2A2 (in), 41 2A1 (in), 48 2~{G} (in)
part C pins: 13 3Y1 (hiz), 14 3Y2 (hiz), 16 3Y3 (hiz), 17 3Y4 (hiz), 25 3~{G} (in), 32 3A4 (in), 33 3A3 (in), 35 3A2 (in), 36 3A1 (in)
part D pins: 19 4Y1 (hiz), 20 4Y2 (hiz), 22 4Y3 (hiz), 23 4Y4 (hiz), 24 4~{G} (in), 26 4A4 (in), 27 4A3 (in), 29 4A2 (in), 30 4A1 (in)
part E pins: 4 GND (power), 7 VCC (power), 10 GND (power), 15 GND (power), 18 VCC (power), 21 GND (power), 28 GND (power), 31 VCC (power), 34 GND (power), 39 GND (power), 42 VCC (power), 45 GND (power)

## RD74LVC16245BT
designator U?
16-bit Bus Transceivers with 3-State Outputs; Published: 10-Feb-2010; DatasheetVersion: Rev.1.00, Apr-2005; PackageVersion: Sep-2005; PackageReference: PTSP0048KA-A; Publisher: Altium Limited; PackageDescription: 48-Pin Thin Shrink Small Outline Package, 12.5 x 6.1 mm Body, 0.5 mm Pitch; Code_JEITA: P-TSSOP48-6.1x12.5-0.50; ComponentLink1Description: Manufacturer Link; ComponentLink1URL: http://sg.renesas.com/fmwk.jsp?cnt=hd74lvc_root.jsp&fp=/products/standard_ic/general_purpose_logic/low_voltage_logic/hd74lvc/; ComponentLink2Description: Datasheet; ComponentLink2URL: http://documentation.renesas.com/eng/products/logic/rej03d0529_rd74lvc16245b.pdf; ComponentLink3Description: Packaging Specification; ComponentLink3URL: http://sg.renesas.com/media/products/common_info/package/pdf/ic/code/ptsp0048ka_a.pdf
footprint PTSP0048KA-A_N (TSSOP, 48-Leads, Body 12.5x6.1mm, Pitch 0.5mm, IPC Medium Density)
footprint PTSP0048KA-A_L (TSSOP, 48-Leads, Body 12.5x6.1mm, Pitch 0.5mm, IPC High Density)
footprint PTSP0048KA-A_M (TSSOP, 48-Leads, Body 12.5x6.1mm, Pitch 0.5mm, IPC Low Density)
pins on every part: 4 GND (power) hidden to GND, 7 VCC (power) hidden to VCC, 10 GND (power) hidden to GND, 15 GND (power) hidden to GND, 18 VCC (power) hidden to VCC, 21 GND (power) hidden to GND, 28 GND (power) hidden to GND, 31 VCC (power) hidden to VCC, 34 GND (power) hidden to GND, 39 GND (power) hidden to GND, 42 VCC (power) hidden to VCC, 45 GND (power) hidden to GND
part A pins: 1 1DIR (in), 2 B1 (io), 3 B2 (io), 5 B3 (io), 6 B4 (io), 8 B5 (io), 9 B6 (io), 11 B7 (io), 12 B8 (io), 37 A8 (io), 38 A7 (io), 40 A6 (io), 41 A5 (io), 43 A4 (io), 44 A3 (io), 46 A2 (io), 47 A1 (io), 48 1~{G} (in)
part B pins: 13 B1 (io), 14 B2 (io), 16 B3 (io), 17 B4 (io), 19 B5 (io), 20 B6 (io), 22 B7 (io), 23 B8 (io), 24 2DIR (in), 25 2~{G} (in), 26 A8 (io), 27 A7 (io), 29 A6 (io), 30 A5 (io), 32 A4 (io), 33 A3 (io), 35 A2 (io), 36 A1 (io)

## RD74LVC16373BT
designator U?
16-bit D-Type Transparent Latches with 3-State Outputs; Published: 10-Feb-2010; DatasheetVersion: Rev.1.00, Jan-2005; PackageVersion: Sep-2005; PackageReference: PTSP0048KA-A; Publisher: Altium Limited; PackageDescription: 48-Pin Thin Shrink Small Outline Package, 12.5 x 6.1 mm Body, 0.5 mm Pitch; Code_JEITA: P-TSSOP48-6.1x12.5-0.50; ComponentLink1Description: Manufacturer Link; ComponentLink1URL: http://sg.renesas.com/fmwk.jsp?cnt=hd74lvc_root.jsp&fp=/products/standard_ic/general_purpose_logic/low_voltage_logic/hd74lvc/; ComponentLink2Description: Datasheet; ComponentLink2URL: http://documentation.renesas.com/eng/products/logic/rej03d0500_rd74lvc16373b.pdf; ComponentLink3Description: Packaging Specification; ComponentLink3URL: http://sg.renesas.com/media/products/common_info/package/pdf/ic/code/ptsp0048ka_a.pdf
footprint PTSP0048KA-A_N (TSSOP, 48-Leads, Body 12.5x6.1mm, Pitch 0.5mm, IPC Medium Density)
footprint PTSP0048KA-A_L (TSSOP, 48-Leads, Body 12.5x6.1mm, Pitch 0.5mm, IPC High Density)
footprint PTSP0048KA-A_M (TSSOP, 48-Leads, Body 12.5x6.1mm, Pitch 0.5mm, IPC Low Density)
pins on every part: 4 GND (power) hidden, 7 VCC (power) hidden, 10 GND (power) hidden, 15 GND (power) hidden, 18 VCC (power) hidden, 21 GND (power) hidden, 28 GND (power) hidden, 31 VCC (power) hidden, 34 GND (power) hidden, 39 GND (power) hidden, 42 VCC (power) hidden, 45 GND (power) hidden
part A pins: 1 1~{G} (in), 2 Q1 (hiz), 3 Q2 (hiz), 5 Q3 (hiz), 6 Q4 (hiz), 8 Q5 (hiz), 9 Q6 (hiz), 11 Q7 (hiz), 12 Q8 (hiz), 37 D8 (in), 38 D7 (in), 40 D6 (in), 41 D5 (in), 43 D4 (in), 44 D3 (in), 46 D2 (in), 47 D1 (in), 48 1LE (in)
part B pins: 13 Q1 (hiz), 14 Q2 (hiz), 16 Q3 (hiz), 17 Q4 (hiz), 19 Q5 (hiz), 20 Q6 (hiz), 22 Q7 (hiz), 23 Q8 (hiz), 24 2~{G} (in), 25 2LE (in), 26 D8 (in), 27 D7 (in), 29 D6 (in), 30 D5 (in), 32 D4 (in), 33 D3 (in), 35 D2 (in), 36 D1 (in)

## RD74LVC16374BT
designator U?
16-bit D-Type Flip Flops with 3-State Outputs; Published: 10-Feb-2010; DatasheetVersion: Rev.1.00, Jan-2005; PackageVersion: Sep-2005; PackageReference: PTSP0048KA-A; Publisher: Altium Limited; PackageDescription: 48-Pin Thin Shrink Small Outline Package, 12.5 x 6.1 mm Body, 0.5 mm Pitch; Code_JEITA: P-TSSOP48-6.1x12.5-0.50; ComponentLink1Description: Manufacturer Link; ComponentLink1URL: http://sg.renesas.com/fmwk.jsp?cnt=hd74lvc_root.jsp&fp=/products/standard_ic/general_purpose_logic/low_voltage_logic/hd74lvc/; ComponentLink2Description: Datasheet; ComponentLink2URL: http://documentation.renesas.com/eng/products/logic/rej03d0501_rd74lvc16374b.pdf; ComponentLink3Description: Packaging Specification; ComponentLink3URL: http://sg.renesas.com/media/products/common_info/package/pdf/ic/code/ptsp0048ka_a.pdf
footprint PTSP0048KA-A_N (TSSOP, 48-Leads, Body 12.5x6.1mm, Pitch 0.5mm, IPC Medium Density)
footprint PTSP0048KA-A_L (TSSOP, 48-Leads, Body 12.5x6.1mm, Pitch 0.5mm, IPC High Density)
footprint PTSP0048KA-A_M (TSSOP, 48-Leads, Body 12.5x6.1mm, Pitch 0.5mm, IPC Low Density)
pins on every part: 4 GND (power) hidden, 7 VCC (power) hidden, 10 GND (power) hidden, 15 GND (power) hidden, 18 VCC (power) hidden, 21 GND (power) hidden, 28 GND (power) hidden, 31 VCC (power) hidden, 34 GND (power) hidden, 39 GND (power) hidden, 42 VCC (power) hidden, 45 GND (power) hidden
part A pins: 1 1~{G} (in), 2 Q1 (hiz), 3 Q2 (hiz), 5 Q3 (hiz), 6 Q4 (hiz), 8 Q5 (hiz), 9 Q6 (hiz), 11 Q7 (hiz), 12 Q8 (hiz), 37 D8 (in), 38 D7 (in), 40 D6 (in), 41 D5 (in), 43 D4 (in), 44 D3 (in), 46 D2 (in), 47 D1 (in), 48 1CK (in)
part B pins: 13 Q1 (hiz), 14 Q2 (hiz), 16 Q3 (hiz), 17 Q4 (hiz), 19 Q5 (hiz), 20 Q6 (hiz), 22 Q7 (hiz), 23 Q8 (hiz), 24 2~{G} (in), 25 2CK (in), 26 D8 (in), 27 D7 (in), 29 D6 (in), 30 D5 (in), 32 D4 (in), 33 D3 (in), 35 D2 (in), 36 D1 (in)